# Altium footprint library belt_control_V2.0.PcbLib: 27 footprints (part 1 of 2)
Each footprint in its own frame and in the unit in brackets; x right, y up, seen from the top. Pads: shape width x height; smd on the part's side, far side on the other; paste and mask are expansions set on the pad; w line width, h text height; cw(c..) or ccw(c..) is an arc to the next point about the centre after c.
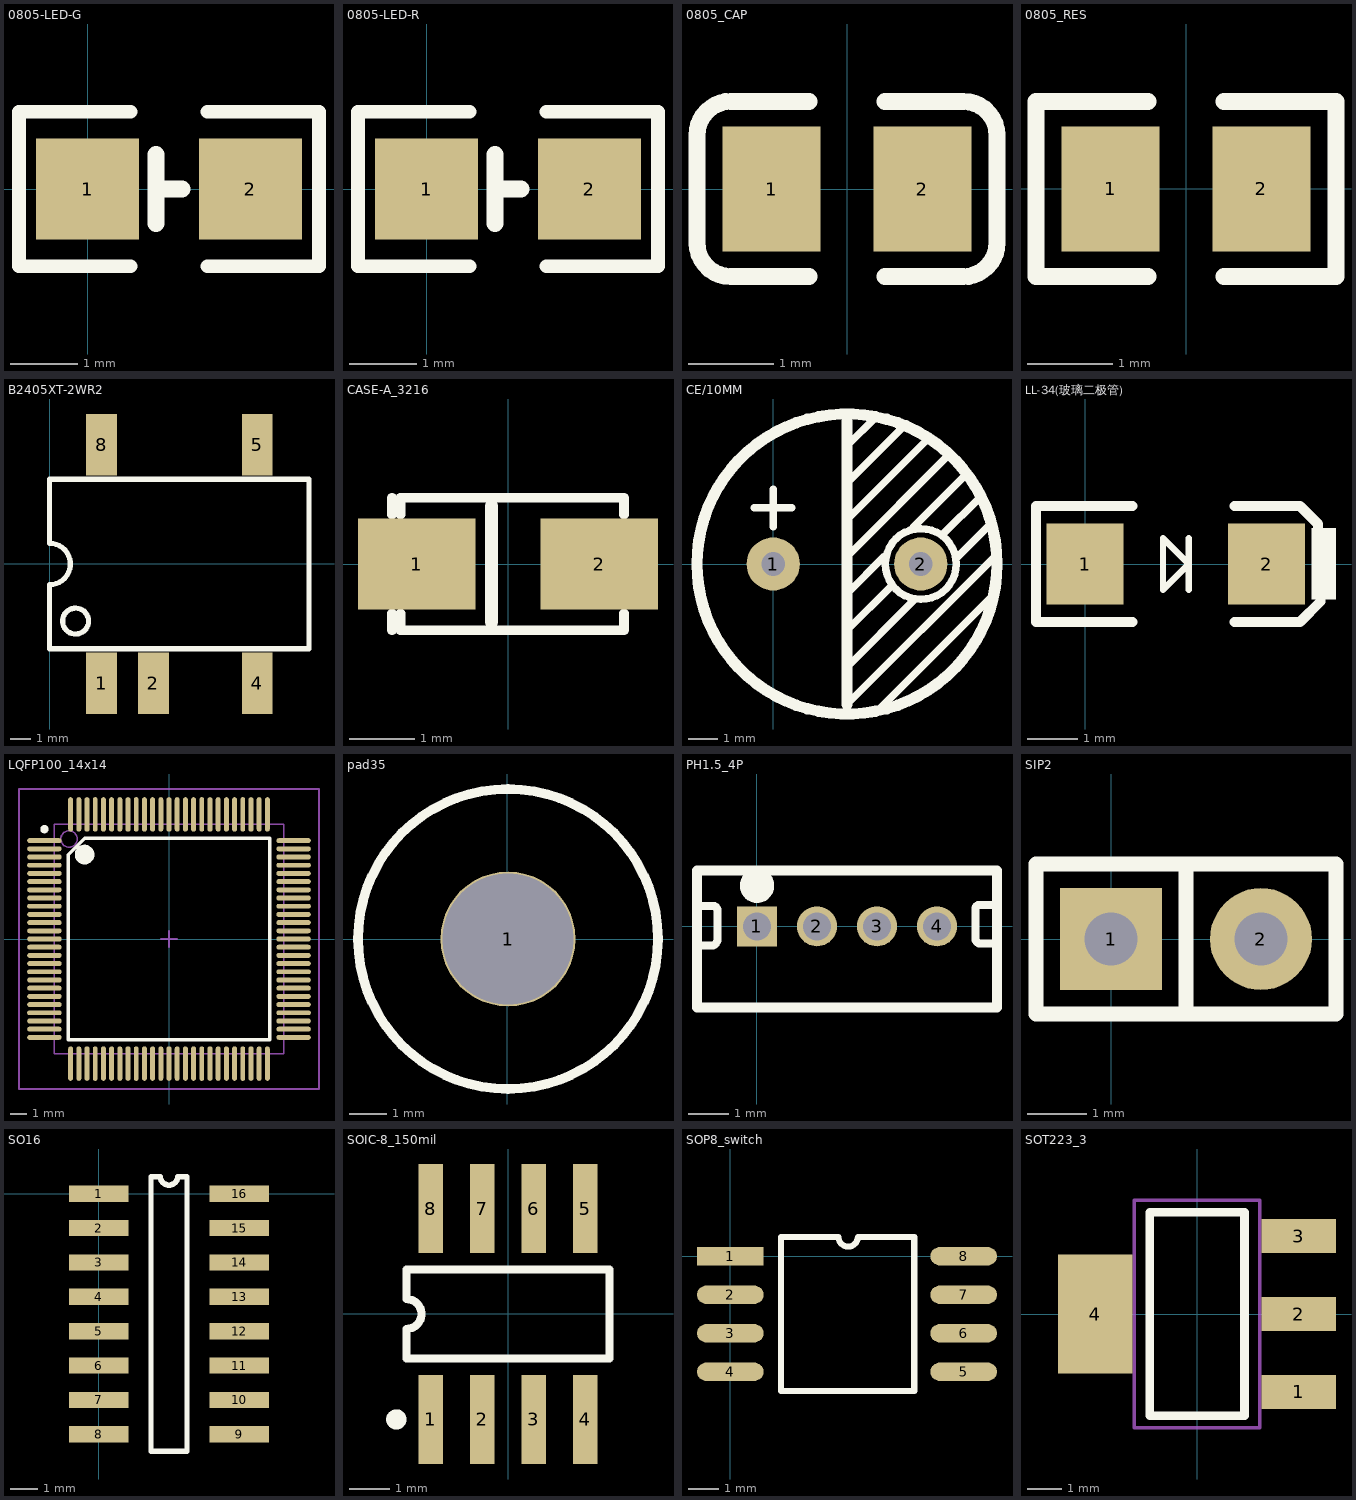
[diagram p0: the footprints below, top view; thin cyan lines are the x and y axes]

## 0805-LED-G [mil]
pads (2):
  rect 60x59.05 smd: 1(0,0) 2(95,0)
Top Overlay:
  lines w8: 25,-45 -40,-45 -40,45 25,45 ; 70,-45 135,-45 135,45 70,45
  lines w10: 40,-20 40,20 ; 40,0 55,0
3D body: height 31.69, standoff -0.04, extent 5.63,-24.29 84.37,25

## 0805-LED-R [mil]
pads (2):
  rect 60x59.05 smd: 1(0,0) 2(95,0)
Top Overlay:
  lines w8: 25,-45 -40,-45 -40,45 25,45 ; 70,-45 135,-45 135,45 70,45
  lines w10: 40,-20 40,20 ; 40,0 55,0
3D body: height 31.69, standoff -0.04, extent 5.63,-24.29 84.37,25

## 0805_CAP [mm]
pads (2):
  rect 1.16x1.47 smd: 1(-0.89,0) 2(0.89,0)
Top Overlay:
  lines w0.2: -0.45,-1.035 -1.37,-1.035 cw(c-1.37,-0.635) -1.77,-0.635 -1.77,0.635 cw(c-1.37,0.635) -1.37,1.035 -0.45,1.035 ; 0.45,-1.035 1.37,-1.035 ccw(c1.37,-0.635) 1.77,-0.635 1.77,0.635 ccw(c1.37,0.635) 1.37,1.035 0.45,1.035
3D body: height 0.77, standoff -0.01, extent -0.999,-0.625 1.001,0.625

## 0805_RES [mm]
pads (2):
  rect 1.16x1.47 smd: 1(-0.89,0) 2(0.89,0)
Top Overlay:
  lines w0.2: -0.45,-1.035 -1.77,-1.035 -1.77,1.035 -0.45,1.035 ; 0.45,-1.035 1.77,-1.035 1.77,1.035 0.45,1.035
3D body: height 0.49, standoff -0.01, extent -0.997,-0.625 1.003,0.625

## B2405XT-2WR2 [mm]
pads (5):
  rect 1.5x3 smd: 1(2.54,-5.866) 2(5.08,-5.866) 4(10.16,-5.866) 5(10.16,5.818) 8(2.54,5.818)
Top Overlay:
  circle w0.254: c1.27,-2.818 r0.635
  lines w0.254: 0,-4.174 12.7,-4.174 12.7,4.126 0,4.126 0,0.992 cw(c0,-0.024) 0,-1.04 0,-4.174

## CASE-A_3216 [mm]
pads (2):
  rect 1.8x1.4 smd: 1(-1.4,0) 2(1.4,0)
Top Overlay:
  lines w0.152: -1.778,-1.016 -1.778,-0.762 ; -1.778,0.762 -1.778,1.016 ; -1.651,-0.762 -1.651,-1.016 1.778,-1.016 1.778,-0.762 ; -1.651,0.762 -1.651,1.016 1.778,1.016 1.778,0.762
  lines w0.2: -0.254,-0.889 -0.254,0.889
3D body: height 1.71, standoff 0, extent -1.7,-0.84 1.7,0.84

## CE/10MM [mm]
pads (2):
  round 1.8 hole 0.8: 1(0,0) 2(5,0)
Top Overlay:
  circle w0.254: c5,0 r1.2
  circle w0.381: c2.5,0 r5.08
  lines w0.254: -0.635,1.905 0.635,1.905 ; 0,1.27 0,2.54 ; 2.5,-4.75 7.5,0.25 ; 2.5,-3.5 4.75,-1.25 ; 2.5,-2.25 4,-0.75 ; 2.5,-1 3.75,0.25 ; 2.5,0.25 6,3.75 ; 2.5,1.5 5.25,4.25 ; 2.5,4 3.5,5 ; 2.625,2.875 4.5,4.75 ; 3.5,-5 7.5,-1 ; 4.75,1.25 6.5,3 ; 5.75,1 7,2.25 ; 6.25,0.25 7.25,1.25 ; 7.371,-1.589 7.4,-1.425
  lines w0.381: 2.5,-4.75 2.5,4.826
3D body: height 16.53, standoff -3.74, extent -2.551,-5 7.5,5.051

## LL-34(玻璃二极管) [mm]
pads (2):
  rect 1.524x1.6 smd: 1(0,0) 2(3.586,0)
Top Overlay:
  rectangle: 4.473,-0.703 4.955,0.711
  lines w0.127: 2.047,-0.508 2.047,0.508 ; 1.539,-0.508 1.539,0.508 2.047,0 1.539,-0.508
  lines w0.2: 0.935,-1.143 -0.97,-1.143 -0.97,1.143 0.935,1.143 ; 2.951,-1.143 4.246,-1.143 4.648,-0.742 4.648,-0.528 ; 2.951,1.143 4.246,1.143 4.602,0.787 4.602,0.559
3D body: height 1.5, standoff 0, extent 0.028,-0.75 3.528,0.75

## LQFP100_14x14 [mm]
pads (100):
  oval 2.1x0.3 smd: 1(-7.6,6) 2(-7.6,5.5) 3(-7.6,5) 4(-7.6,4.5) 5(-7.6,4) 6(-7.6,3.5) 7(-7.6,3) 8(-7.6,2.5) 9(-7.6,2) 10(-7.6,1.5) 11(-7.6,1) 12(-7.6,0.5) 13(-7.6,0) 14(-7.6,-0.5) 15(-7.6,-1) 16(-7.6,-1.5) 17(-7.6,-2) 18(-7.6,-2.5) 19(-7.6,-3) 20(-7.6,-3.5) 21(-7.6,-4) 22(-7.6,-4.5) 23(-7.6,-5) 24(-7.6,-5.5) 25(-7.6,-6) 51(7.6,-6) 52(7.6,-5.5) 53(7.6,-5) 54(7.6,-4.5) 55(7.6,-4) 56(7.6,-3.5) 57(7.6,-3) 58(7.6,-2.5) 59(7.6,-2) 60(7.6,-1.5) 61(7.6,-1) 62(7.6,-0.5) 63(7.6,0) 64(7.6,0.5) 65(7.6,1) 66(7.6,1.5) 67(7.6,2) 68(7.6,2.5) 69(7.6,3) 70(7.6,3.5) 71(7.6,4) 72(7.6,4.5) 73(7.6,5) 74(7.6,5.5) 75(7.6,6)
  oval 0.3x2.1 smd: 26(-6,-7.6) 27(-5.5,-7.6) 28(-5,-7.6) 29(-4.5,-7.6) 30(-4,-7.6) 31(-3.5,-7.6) 32(-3,-7.6) 33(-2.5,-7.6) 34(-2,-7.6) 35(-1.5,-7.6) 36(-1,-7.6) 37(-0.5,-7.6) 38(0,-7.6) 39(0.5,-7.6) 40(1,-7.6) 41(1.5,-7.6) 42(2,-7.6) 43(2.5,-7.6) 44(3,-7.6) 45(3.5,-7.6) 46(4,-7.6) 47(4.5,-7.6) 48(5,-7.6) 49(5.5,-7.6) 50(6,-7.6) 76(6,7.6) 77(5.5,7.6) 78(5,7.6) 79(4.5,7.6) 80(4,7.6) 81(3.5,7.6) 82(3,7.6) 83(2.5,7.6) 84(2,7.6) 85(1.5,7.6) 86(1,7.6) 87(0.5,7.6) 88(0,7.6) 89(-0.5,7.6) 90(-1,7.6) 91(-1.5,7.6) 92(-2,7.6) 93(-2.5,7.6) 94(-3,7.6) 95(-3.5,7.6) 96(-4,7.6) 97(-4.5,7.6) 98(-5,7.6) 99(-5.5,7.6) 100(-6,7.6)
Top Overlay:
  circle w0.6: c-5.15,5.15 r0.3
  circle w0.25: c-7.6,6.7 r0.125
  lines w0.2: -6.15,-6.15 -6.15,5.153 -5.153,6.15 6.15,6.15 6.15,-6.15 -6.15,-6.15
Mechanical 13:
  circle w0.1: c-6.1,6.1 r0.5
  lines w0.1: -7,-7 7,-7 7,7 -7,7 -7,-7
Mechanical 15:
  lines w0.1: -0.5,0 0.5,0 ; 0,-0.5 0,0.5 ; -9.15,-9.15 9.15,-9.15 9.15,9.15 -9.15,9.15 -9.15,-9.15
3D body: height 1.45, standoff 0, extent -8.005,-8.003 8.001,8.003

## pad35 [mm]
pads (1):
  round 3.6 hole 3.5: 1(0.025,0)
Top Overlay:
  circle w0.254: c0.025,0 r4

## PH1.5_4P [mm]
pads (4):
  rect 1x1 hole 0.7: 1(0,0)
  round 1 hole 0.7: 2(1.5,0) 3(3,0) 4(4.5,0)
Top Overlay:
  circle w0.5: c0,1.016 r0.18
  lines w0.2: -1.5,0.508 -1.092,0.508 cw(c-1.092,0.406) -0.991,0.406 -0.991,-0.33 cw(c-1.143,-0.33) -1.143,-0.483 -1.448,-0.483 ccw(c-1.448,-0.533) -1.499,-0.533 ; 5.969,-0.406 cw(c5.944,-0.406) 5.944,-0.432 5.588,-0.432 cw(c5.588,-0.305) 5.461,-0.305 5.461,0.432 cw(c5.563,0.432) 5.563,0.533 6,0.533
  lines w0.254: -1.5,-2.032 6,-2.032 6,1.4 -1.5,1.4 -1.5,-2.032

## SIP2 [mil]
pads (2):
  rect 68x68 hole 35.43: 1(0,0)
  round 68 hole 35.43: 2(100,0)
Top Overlay:
  lines w10: 50,-50 50,50 ; -50,-50 150,-50 150,50 -50,50 -50,-50
3D body: height 336.22, standoff -118.11, extent -50,-50 150,50

## SO16 [mm]
pads (16):
  rect 2.2x0.6 smd: 1(0,0) 2(0,-1.27) 3(0,-2.54) 4(0,-3.81) 5(0,-5.08) 6(0,-6.35) 7(0,-7.62) 8(0,-8.89) 9(5.2,-8.89) 10(5.2,-7.62) 11(5.2,-6.35) 12(5.2,-5.08) 13(5.2,-3.81) 14(5.2,-2.54) 15(5.2,-1.27) 16(5.2,0)
Top Overlay:
  lines w0.2: 1.935,-9.525 3.265,-9.525 3.265,0.635 2.917,0.635 cw(c2.6,0.635) 2.282,0.635 1.935,0.635 1.935,-9.525
3D body: height 1.45, standoff 0, extent -0.317,-9.436 5.588,0.546

## SOIC-8_150mil [mm]
pads (8):
  rect 0.6x2.2 smd: 1(-1.905,-2.6) 2(-0.635,-2.6) 3(0.635,-2.6) 4(1.905,-2.6) 5(1.905,2.6) 6(0.635,2.6) 7(-0.635,2.6) 8(-1.905,2.6)
Top Overlay:
  circle w0.25: c-2.755,-2.6 r0.125
  lines w0.2: -2.5,-1.1 -2.5,-0.367 ccw(c-2.5,0) -2.5,0.367 -2.5,1.1 2.5,1.1 2.5,-1.1 -2.5,-1.1
3D body: height 1.45, standoff 0, extent -2.489,-2.889 2.413,2.889

## SOP8_switch [mm]
pads (8):
  rect 2.2x0.6 smd: 1(0,0)
  oval 2.2x0.6 smd: 2(0,-1.27) 3(0,-2.54) 4(0,-3.81) 5(7.695,-3.81) 6(7.695,-2.54) 7(7.695,-1.27) 8(7.695,0)
Top Overlay:
  lines w0.2: 1.676,-4.445 6.065,-4.445 6.065,0.635 4.204,0.635 cw(c3.886,0.635) 3.569,0.635 1.676,0.635 1.676,-4.445

## SOT223_3 [mm]
pads (4):
  rect 2.2x1 smd: 1(3,-2.3) 2(3,0) 3(3,2.3)
  rect 2.2x3.5 smd: 4(-3,0)
Top Overlay:
  lines w0.254: -1.4,-3 -1.4,3 1.4,3 1.4,-3 -1.4,-3
Mechanical 13:
  lines w0.1: -1.85,-3.35 1.85,-3.35 1.85,3.35 -1.85,3.35 -1.85,-3.35
3D body: height 1.64, standoff -0.04, extent -3.49,-3.242 3.49,3.243